# Altium footprint library MPU6050.PcbLib: 1 footprints
Each footprint in its own frame and in the unit in brackets; x right, y up, seen from the top. Pads: shape width x height; smd on the part's side, far side on the other; paste and mask are expansions set on the pad; w line width, h text height; cw(c..) or ccw(c..) is an arc to the next point about the centre after c.
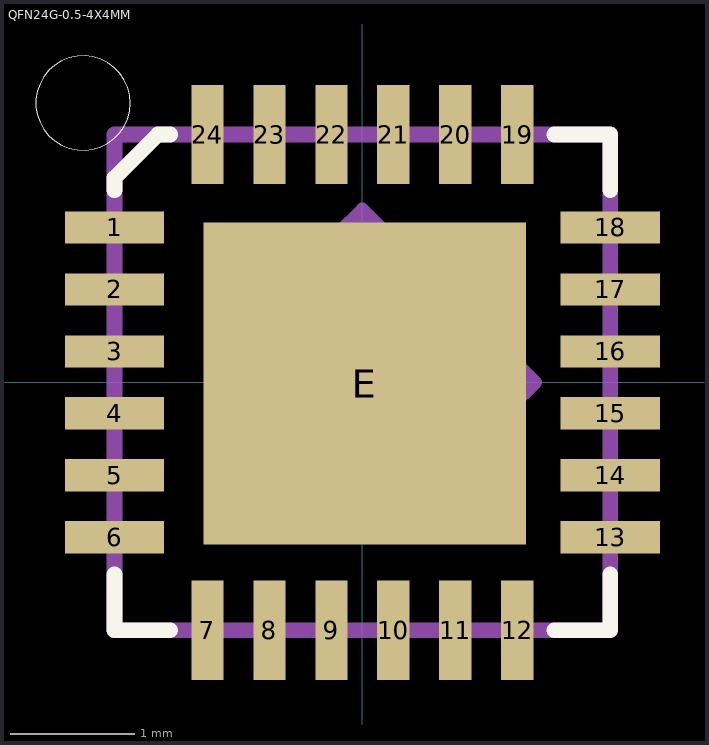
[diagram p0: the footprint, top view; thin cyan lines are the x and y axes]

## QFN24G-0.5-4X4MM [mm]
pads (25):
  rect 0.8x0.26 smd paste-25.4 mask-25.4: 1(-2,1.25) 2(-2,0.75) 3(-2,0.25) 4(-2,-0.25) 5(-2,-0.75) 6(-2,-1.25) 13(2,-1.25) 14(2,-0.75) 15(2,-0.25) 16(2,0.25) 17(2,0.75) 18(2,1.25)
  rect 0.26x0.8 smd paste-25.4 mask-25.4: 7(-1.25,-2) 8(-0.75,-2) 9(-0.25,-2) 10(0.25,-2) 11(0.75,-2) 12(1.25,-2) 19(1.25,2) 20(0.75,2) 21(0.25,2) 22(-0.25,2) 23(-0.75,2) 24(-1.25,2)
  rect 2.6x2.6 smd paste-25.4 mask-25.4: E(0.02,-0.01)
Top Overlay:
  circle w0: c-2.254,2.254 r0.381
  lines w0.127: -2,-1.55 -2,-2 -1.55,-2 ; -2,1.55 -2,1.65 -1.65,2 -1.55,2 ; 1.55,-2 2,-2 2,-1.55 ; 1.55,2 2,2 2,1.55
Top Paste:
  region: -1.28,-1.31 1.32,-1.31 1.32,1.29 -1.28,1.29
  region: -1.12,1.6 -1.12,2.4 -1.38,2.4 -1.38,1.6
  region: -0.62,1.6 -0.62,2.4 -0.88,2.4 -0.88,1.6
  region: -0.12,1.6 -0.12,2.4 -0.38,2.4 -0.38,1.6
  region: 0.38,1.6 0.38,2.4 0.12,2.4 0.12,1.6
  region: 0.88,1.6 0.88,2.4 0.62,2.4 0.62,1.6
  region: 1.38,1.6 1.38,2.4 1.12,2.4 1.12,1.6
  region: 2.4,1.38 1.6,1.38 1.6,1.12 2.4,1.12
  region: 2.4,0.88 1.6,0.88 1.6,0.62 2.4,0.62
  region: 2.4,0.38 1.6,0.38 1.6,0.12 2.4,0.12
  region: 2.4,-0.12 1.6,-0.12 1.6,-0.38 2.4,-0.38
  region: 2.4,-0.62 1.6,-0.62 1.6,-0.88 2.4,-0.88
  region: 2.4,-1.12 1.6,-1.12 1.6,-1.38 2.4,-1.38
  region: 1.38,-2.4 1.38,-1.6 1.12,-1.6 1.12,-2.4
  region: 0.88,-2.4 0.88,-1.6 0.62,-1.6 0.62,-2.4
  region: 0.38,-2.4 0.38,-1.6 0.12,-1.6 0.12,-2.4
  region: -0.12,-2.4 -0.12,-1.6 -0.38,-1.6 -0.38,-2.4
  region: -0.62,-2.4 -0.62,-1.6 -0.88,-1.6 -0.88,-2.4
  region: -1.12,-2.4 -1.12,-1.6 -1.38,-1.6 -1.38,-2.4
  region: -1.6,-1.12 -2.4,-1.12 -2.4,-1.38 -1.6,-1.38
  region: -1.6,-0.62 -2.4,-0.62 -2.4,-0.88 -1.6,-0.88
  region: -1.6,-0.12 -2.4,-0.12 -2.4,-0.38 -1.6,-0.38
  region: -1.6,0.38 -2.4,0.38 -2.4,0.12 -1.6,0.12
  region: -1.6,0.88 -2.4,0.88 -2.4,0.62 -1.6,0.62
  region: -1.6,1.38 -2.4,1.38 -2.4,1.12 -1.6,1.12
Top Solder:
  region: -1.38,-1.41 1.42,-1.41 1.42,1.39 -1.38,1.39
  region: -1.02,1.5 -1.02,2.5 -1.48,2.5 -1.48,1.5
  region: -0.52,1.5 -0.52,2.5 -0.98,2.5 -0.98,1.5
  region: -0.02,1.5 -0.02,2.5 -0.48,2.5 -0.48,1.5
  region: 0.48,1.5 0.48,2.5 0.02,2.5 0.02,1.5
  region: 0.98,1.5 0.98,2.5 0.52,2.5 0.52,1.5
  region: 1.48,1.5 1.48,2.5 1.02,2.5 1.02,1.5
  region: 2.5,1.48 1.5,1.48 1.5,1.02 2.5,1.02
  region: 2.5,0.98 1.5,0.98 1.5,0.52 2.5,0.52
  region: 2.5,0.48 1.5,0.48 1.5,0.02 2.5,0.02
  region: 2.5,-0.02 1.5,-0.02 1.5,-0.48 2.5,-0.48
  region: 2.5,-0.52 1.5,-0.52 1.5,-0.98 2.5,-0.98
  region: 2.5,-1.02 1.5,-1.02 1.5,-1.48 2.5,-1.48
  region: 1.48,-2.5 1.48,-1.5 1.02,-1.5 1.02,-2.5
  region: 0.98,-2.5 0.98,-1.5 0.52,-1.5 0.52,-2.5
  region: 0.48,-2.5 0.48,-1.5 0.02,-1.5 0.02,-2.5
  region: -0.02,-2.5 -0.02,-1.5 -0.48,-1.5 -0.48,-2.5
  region: -0.52,-2.5 -0.52,-1.5 -0.98,-1.5 -0.98,-2.5
  region: -1.02,-2.5 -1.02,-1.5 -1.48,-1.5 -1.48,-2.5
  region: -1.5,-1.02 -2.5,-1.02 -2.5,-1.48 -1.5,-1.48
  region: -1.5,-0.52 -2.5,-0.52 -2.5,-0.98 -1.5,-0.98
  region: -1.5,-0.02 -2.5,-0.02 -2.5,-0.48 -1.5,-0.48
  region: -1.5,0.48 -2.5,0.48 -2.5,0.02 -1.5,0.02
  region: -1.5,0.98 -2.5,0.98 -2.5,0.52 -1.5,0.52
  region: -1.5,1.48 -2.5,1.48 -2.5,1.02 -1.5,1.02
Mechanical 1:
  circle w0.1: c0,0 r0.2
  lines w0.1: -0.3,0.698 cw(c0,0.65) 0.3,0.698 ; -0.2,1.2 0,1.4 ; 0,0.2 0,1.4 ; 0.2,0 1.4,0 ; 0.2,0.7 0.3,0.7 0.4,0.8 ; 0.2,1.2 0,1.4 ; 0.698,-0.3 ccw(c0.65,0) 0.698,0.3 ; 0.7,-0.2 0.7,-0.3 0.8,-0.4 ; 1.2,-0.2 1.4,0 ; 1.2,0.2 1.4,0
  lines w0.127: -2,-2 -2,2 2,2 2,-2 -2,-2